# Altium schematic symbol library optos.SchLib: 2 symbols
Pins are listed as number, name and electrical type; pins without a type are passive.

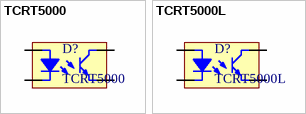
[diagram p0: symbols TCRT5000 to TCRT5000L]

## TCRT5000
designator D?
Reflective Optical Sensor with Transistor Output
footprint TCRT5000 (Reflective Optical Sensor with Transistor Output)
pins: 1, 2, 3, 4

## TCRT5000L
designator D?
Long lead version - Reflective Optical Sensor with Transistor Output
footprint TCRT5000L (Long lead version - Reflective Optical Sensor with Transistor Output)
pins: 1, 2, 3, 4